# EAGLE library part SIM300D (library simcom)
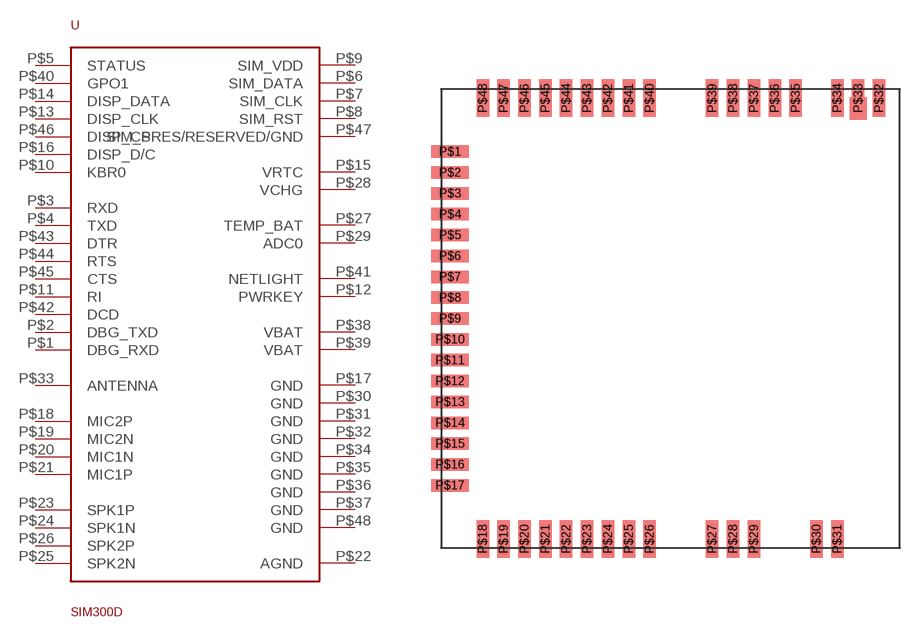
[diagram p0: symbol with the pads of SIM300D_PKG; footprint SIM300D_PKG]

Designator prefix -

## SIM300D  [SIM300D_PKG]
P$1  DBG_RXD  in
P$2  DBG_TXD  out
P$3  RXD  in
P$4  TXD  out
P$5  STATUS  out
P$6  SIM_DATA
P$7  SIM_CLK  out
P$8  SIM_RST  out
P$9  SIM_VDD  pwr
P$10  KBR0
P$11  RI
P$12  PWRKEY  in
P$13  DISP_CLK  out
P$14  DISP_DATA  out
P$15  VRTC  in
P$16  DISP_D/C  out
P$17  GND  pwr
P$18  MIC2P  in
P$19  MIC2N  in
P$20  MIC1N  in
P$21  MIC1P  in
P$22  AGND  pwr
P$23  SPK1P  out
P$24  SPK1N  out
P$25  SPK2N  out
P$26  SPK2P  out
P$27  TEMP_BAT  in
P$28  VCHG  pwr
P$29  ADC0  in
P$30  GND  pwr
P$31  GND  pwr
P$32  GND  pwr
P$33  ANTENNA  out
P$34  GND  pwr
P$35  GND  pwr
P$36  GND  pwr
P$37  GND  pwr
P$38  VBAT  pwr
P$39  VBAT  pwr
P$40  GPO1  out
P$41  NETLIGHT  out
P$42  DCD
P$43  DTR
P$44  RTS
P$45  CTS
P$46  DISP_CS  out
P$47  SIM_PRES/RESERVED/GND
P$48  GND  pwr

## Footprint SIM300D_PKG (pad centres in mm)
smd 2.7 x 0.9: P$1 0.65,28.5; P$2 0.65,27; P$3 0.65,25.5; P$4 0.65,24; P$5 0.65,22.5; P$6 0.65,21; P$7 0.65,19.5; P$8 0.65,18; P$9 0.65,16.5; P$10 0.65,15; P$11 0.65,13.5; P$12 0.65,12; P$13 0.65,10.5; P$14 0.65,9; P$15 0.65,7.5; P$16 0.65,6; P$17 0.65,4.5
smd 0.9 x 2.7: P$18 3,0.65; P$19 4.5,0.65; P$20 6,0.65; P$21 7.5,0.65; P$22 9,0.65; P$23 10.5,0.65; P$24 12,0.65; P$25 13.5,0.65; P$26 15,0.65; P$27 19.5,0.65; P$28 21,0.65; P$29 22.5,0.65; P$30 27,0.65; P$31 28.5,0.65; P$32 31.5,32.35; P$33 30,32.35; P$34 28.5,32.35; P$35 25.5,32.35; P$36 24,32.35; P$37 22.5,32.35; P$38 21,32.35; P$39 19.5,32.35; P$40 15,32.35; P$41 13.5,32.35; P$42 12,32.35; P$43 10.5,32.35; P$44 9,32.35; P$45 7.5,32.35; P$46 6,32.35; P$47 4.5,32.35; P$48 3,32.35